# EAGLE library part GMJXHT-MM-S-88 (library GMJXHT-MM-S-88)
MODJACK MIDMOUNT 8P8C SHIELD RoHS COMPLIANT Source: Datasheet <http://www.kycon.com/Pub_Eng_Draw/GMJXHT-MM-S-88.pdf>
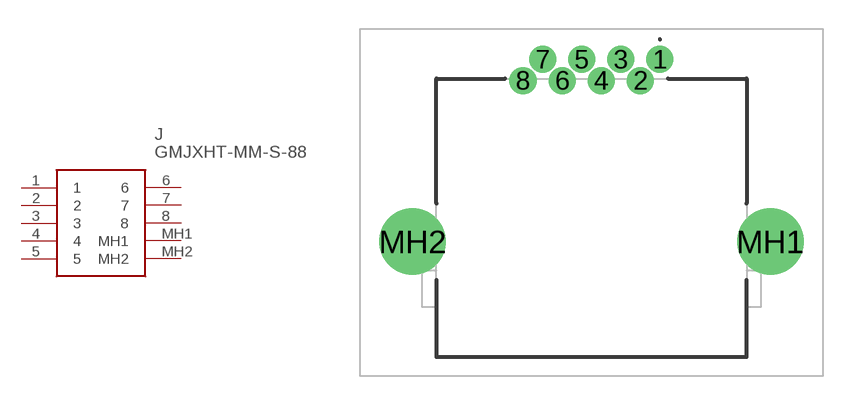
[diagram p0: symbol with the pads of GMJXHTMMS88; footprint GMJXHTMMS88]

Designator prefix J

## GMJXHT-MM-S-88 (DESCRIPTION: MODJACK MIDMOUNT 8P8C SHIELD RoHS COMPLIANT; HEIGHT: 10.1mm; MANUFACTURER_NAME: Kycon; MANUFACTURER_PART_NUMBER: GMJXHT-MM-S-88; MOUSER_PART_NUMBER: 806-GMJXHT-MM-S-88; MOUSER_PRICE-STOCK: https://www.mouser.co.uk/ProductDetail/Kycon/GMJXHT-MM-S-88?qs=2OnyuXx6vpiODS6CjVUhnA%3D%3D)  [GMJXHTMMS88]
1  1
2  2
3  3
4  4
5  5
6  6
7  7
8  8
MH1  MH1
MH2  MH2

## Footprint GMJXHTMMS88 (pad centres in mm)
GMJXHT-MM-S-88-2
drill 0.9 pad 1.2: 1 0,0; 2 -1.02,-1.1; 3 -2.04,0; 4 -3.06,-1.1; 5 -4.08,0; 6 -5.1,-1.1; 7 -6.12,0; 8 -7.14,-1.1
drill 2.31 pad 3.465: MH1 5.751,-9.5; MH2 -12.889,-9.5